# Altium schematic symbol library SMBJ20CA.SchLib: 1 symbol
Pins are listed as number, name and electrical type; pins without a type are passive.

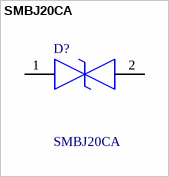
[diagram p0: symbol SMBJ20CA]

## SMBJ20CA
designator D?
Fairchild SMBJ20CA Bi-Directional TVS Diode, 600W peak, 2-Pin DO-214AA; Manufacturer_Name: onsemi; Geometry.Height: 2.45mm; Mouser Part Number: 512-SMBJ20CA; Mouser Price/Stock: https://www.mouser.co.uk/ProductDetail/onsemi-Fairchild/SMBJ20CA?qs=iN0KuJO79Ka3il%2FXEzRA3A%3D%3D; Manufacturer_Part_Number: SMBJ20CA; Datasheet Link: https://componentsearchengine.com/Datasheets/1/SMBJ20CA.pdf
footprint DIOM5336X245N
pins: 1, 2